# EAGLE library part NE555 (library DMF_NE555Project)
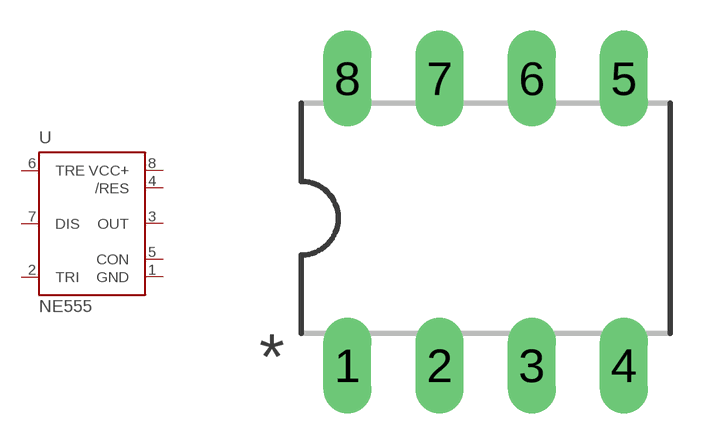
[diagram p0: symbol with the pads of NE555; footprint NE555]

Designator prefix U

## NE555  [NE555]
1  GND  pwr
2  TRI  in
3  OUT  out
4  /RES  in
5  CON  in
6  TRE  in
7  DIS  in
8  VCC+  pwr

## Footprint NE555 (pad centres in mm)
drill 0.813 long: 1 -3.81,-3.96; 2 -1.27,-3.96; 3 1.27,-3.96; 4 3.81,-3.96; 5 3.81,3.96; 6 1.27,3.96; 7 -1.27,3.96; 8 -3.81,3.96